# EAGLE library part ST1S10 (library ST1S10)
ST1S10 voltage regulator
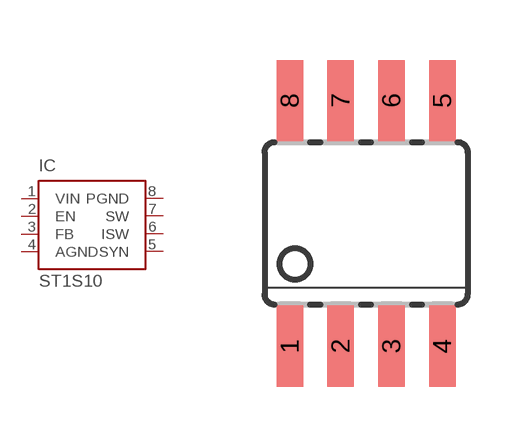
[diagram p0: symbol with the pads of SOIC08; footprint SOIC08]

Designator prefix IC

## ST1S10-SOIC (OC_FARNELL: unknown; OC_NEWARK: unknown)  [SOIC08]
1  VIN  pwr
2  EN  in
3  FB
4  AGND  pwr
5  SYN  out
6  ISW  pwr
7  SW  pwr
8  PGND  pwr

## Footprint SOIC08 (pad centres in mm)
Small Outline Package
smd 0.66 x 2.032: 1 -1.905,-3.073; 2 -0.635,-3.073; 3 0.635,-3.073; 4 1.905,-3.073; 5 1.905,3.073; 6 0.635,3.073; 7 -0.635,3.073; 8 -1.905,3.073